# EAGLE library part MH-ET-LIVE-MINI (library ts_dev_boards)
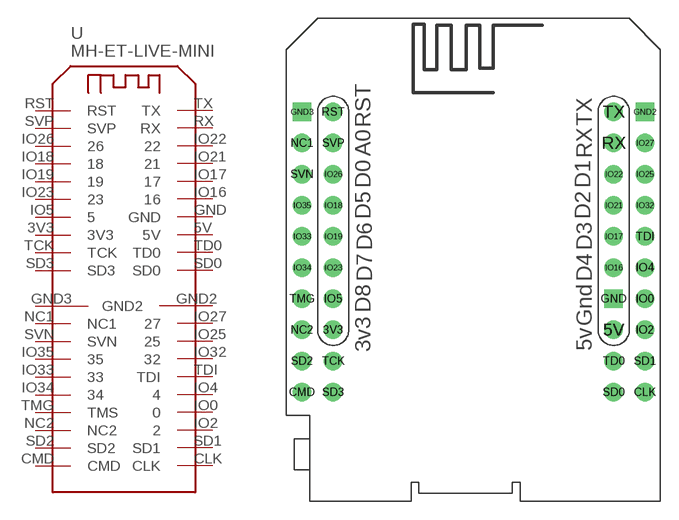
[diagram p7: symbol with the pads of MH-ET-LIVE-MINI; footprint MH-ET-LIVE-MINI]

Designator prefix -

## MH-ET-LIVE-MINI  [MH-ET-LIVE-MINI]
3V3  3V3  pwr
5V  5V  pwr
CLK  CLK
CMD  CMD
GND  GND  pwr
GND2  GND2  pwr
GND3  GND3  pwr
IO0  0
IO2  2
IO4  4
IO5  5
IO16  16
IO17  17
IO18  18
IO19  19
IO21  21
IO22  22
IO23  23
IO25  25
IO26  26
IO27  27
IO32  32
IO33  33
IO34  34
IO35  35
NC1  NC1  nc
NC2  NC2  nc
RST  RST
RX  RX
SD0  SD0
SD1  SD1
SD2  SD2
SD3  SD3
SVN  SVN
SVP  SVP
TCK  TCK
TD0  TD0
TDI  TDI
TMG  TMS
TX  TX

## Footprint MH-ET-LIVE-MINI (pad centres in mm)
WEMOS D1 mini: Mini Wi-Fi Board based on ESP-8266 device
drill 1: 3V3 -11.43,-8.89; 5V 11.43,-8.89; CLK 13.97,-13.97; CMD -13.97,-13.97; IO0 13.97,-6.35; IO2 13.97,-8.89; IO4 13.97,-3.81; IO5 -11.43,-6.35; IO16 11.43,-3.81; IO17 11.43,-1.27; IO18 -11.43,1.27; IO19 -11.43,-1.27; IO21 11.43,1.27; IO22 11.43,3.81; IO23 -11.43,-3.81; IO25 13.97,3.81; IO26 -11.43,3.81; IO27 13.97,6.35; IO32 13.97,1.27; IO33 -13.97,-1.27; IO34 -13.97,-3.81; IO35 -13.97,1.27; NC1 -13.97,6.35; NC2 -13.97,-8.89; RST -11.43,8.89; RX 11.43,6.35; SD0 11.43,-13.97; SD1 13.97,-11.43; SD2 -13.97,-11.43; SD3 -11.43,-13.97; SVN -13.97,3.81; SVP -11.43,6.35; TCK -11.43,-11.43; TD0 11.43,-11.43; TDI 13.97,-1.27; TMG -13.97,-6.35; TX 11.43,8.89
drill 1 square: GND 11.43,-6.35; GND2 13.97,8.89; GND3 -13.97,8.89